# EAGLE library part LM5116 (library 48buck_library)
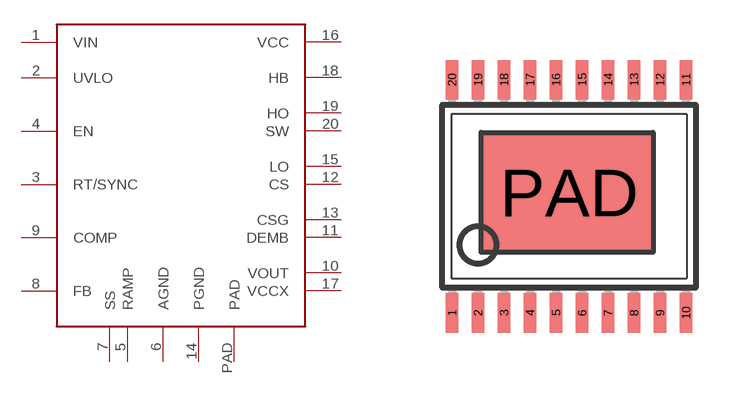
[diagram p0: symbol with the pads of TSSOP20; footprint TSSOP20]

Designator prefix -

## LM5116  [TSSOP20]
1  VIN  pwr
2  UVLO
3  RT/SYNC
4  EN
5  RAMP
6  AGND
7  SS
8  FB
9  COMP
10  VOUT
11  DEMB
12  CS
13  CSG
14  PGND
15  LO
16  VCC
17  VCCX
18  HB
19  HO
20  SW
PAD  PAD

## Footprint TSSOP20 (pad centres in mm)
smd 0.305 x 0.991: 1 -3.025,-3.118; 2 -2.375,-3.118; 3 -1.725,-3.118; 4 -1.075,-3.118; 5 -0.425,-3.118; 6 0.225,-3.118; 7 0.875,-3.118; 8 1.525,-3.118; 9 2.175,-3.118; 10 2.825,-3.118; 11 2.825,2.718; 12 2.175,2.718; 13 1.525,2.718; 14 0.875,2.718; 15 0.225,2.718; 16 -0.425,2.718; 17 -1.075,2.718; 18 -1.725,2.718; 19 -2.375,2.718; 20 -3.025,2.718
smd 3.81 x 1.93: PAD -0.1,-0.1